# Altium footprint library ptitteam_pcb.PcbLib: 43 footprints (part 2 of 3)
Each footprint in its own frame and in the unit in brackets; x right, y up, seen from the top. Pads: shape width x height; smd on the part's side, far side on the other; paste and mask are expansions set on the pad; w line width, h text height; cw(c..) or ccw(c..) is an arc to the next point about the centre after c.
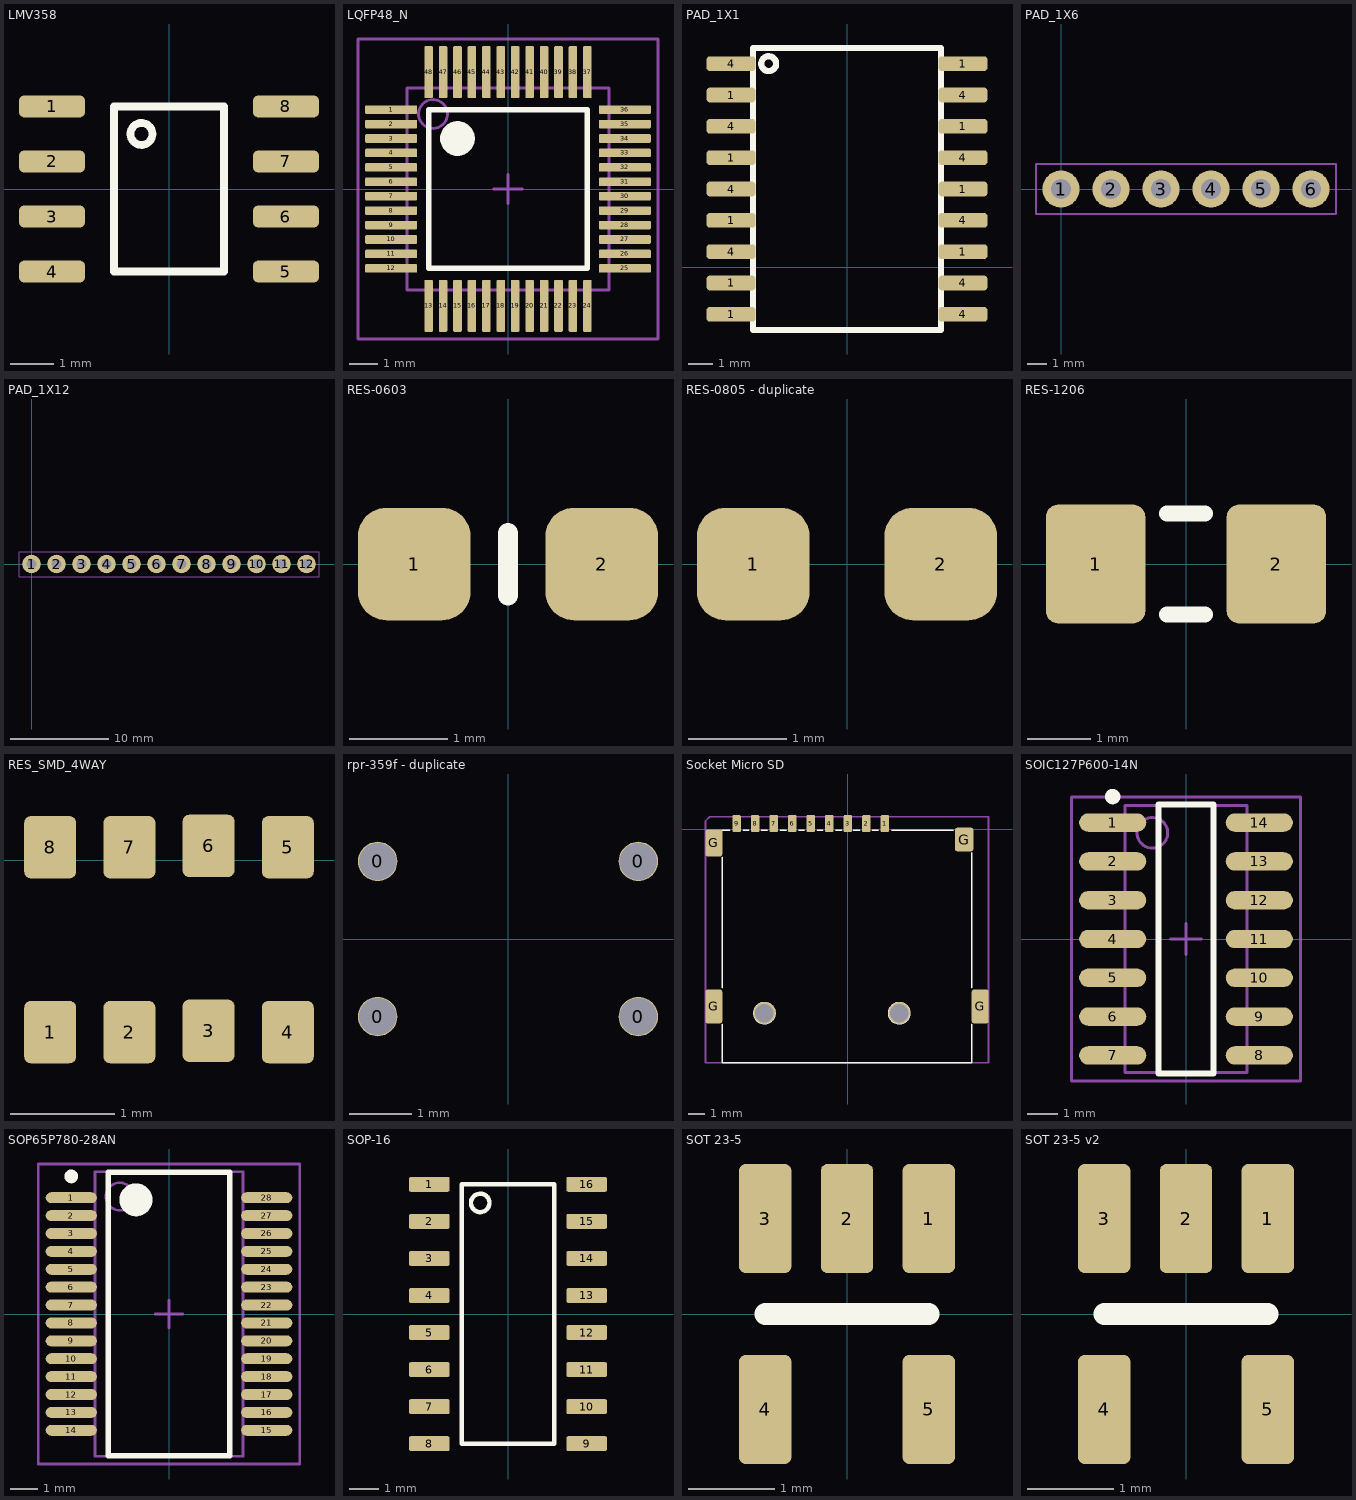
[diagram p1: the footprints below, top view; thin cyan lines are the x and y axes]

## LMV358 [mil]
pads (8):
  rrect50% 60x20 smd: 1(-106.25,75) 2(-106.25,25) 3(-106.25,-25) 4(-106.25,-75) 5(106.25,-75) 6(106.25,-25) 7(106.25,25) 8(106.25,75)
Top Overlay:
  circle w7: c-25,50 r10
  lines w7: -50,-75 -50,75 50,75 50,-75 -50,-75

## LQFP48_N [mm] "Thin QFP, 48-Leads, Body 7x7mm, Pitch 0.5mm, IPC Medium Density"
height 1.6
pads (48):
  rrect25% 1.8x0.297 smd: 1(-4.05,2.75) 2(-4.05,2.25) 3(-4.05,1.75) 4(-4.05,1.25) 5(-4.05,0.75) 6(-4.05,0.25) 7(-4.05,-0.25) 8(-4.05,-0.75) 9(-4.05,-1.25) 10(-4.05,-1.75) 11(-4.05,-2.25) 12(-4.05,-2.75) 25(4.05,-2.75) 26(4.05,-2.25) 27(4.05,-1.75) 28(4.05,-1.25) 29(4.05,-0.75) 30(4.05,-0.25) 31(4.05,0.25) 32(4.05,0.75) 33(4.05,1.25) 34(4.05,1.75) 35(4.05,2.25) 36(4.05,2.75)
  rrect25% 0.297x1.8 smd: 13(-2.75,-4.05) 14(-2.25,-4.05) 15(-1.75,-4.05) 16(-1.25,-4.05) 17(-0.75,-4.05) 18(-0.25,-4.05) 19(0.25,-4.05) 20(0.75,-4.05) 21(1.25,-4.05) 22(1.75,-4.05) 23(2.25,-4.05) 24(2.75,-4.05) 37(2.75,4.05) 38(2.25,4.05) 39(1.75,4.05) 40(1.25,4.05) 41(0.75,4.05) 42(0.25,4.05) 43(-0.25,4.05) 44(-0.75,4.05) 45(-1.25,4.05) 46(-1.75,4.05) 47(-2.25,4.05) 48(-2.75,4.05)
Top Overlay:
  circle w0.6: c-1.75,1.75 r0.3
  lines w0.2: -2.75,-2.75 2.75,-2.75 2.75,2.75 -2.75,2.75 -2.75,-2.75
Mechanical 13:
  circle w0.1: c-2.6,2.6 r0.5
  lines w0.1: -3.5,-3.5 3.5,-3.5 3.5,3.5 -3.5,3.5 -3.5,-3.5
Mechanical 15:
  lines w0.1: -0.5,0 0.5,0 ; 0,-0.5 0,0.5 ; -5.2,-5.2 5.2,-5.2 5.2,5.2 -5.2,5.2 -5.2,-5.2
3D body: height 1.6, standoff 0, extent -3.5,-3.5 3.5,3.5

## PAD_1X1 [mm] "Pad Header; Pitch 2.54 mm"
pads (18):
  rrect50% 2x0.6 smd: 1(-4.7,-1.905) 1(-4.7,-0.635) 1(-4.7,1.905) 1(-4.7,4.445) 1(-4.7,6.985) 1(4.7,0.635) 1(4.7,3.175) 1(4.7,5.715) 1(4.7,8.255) 4(-4.7,0.635) 4(-4.7,3.175) 4(-4.7,5.715) 4(-4.7,8.255) 4(4.7,-1.905) 4(4.7,-0.635) 4(4.7,1.905) 4(4.7,4.445) 4(4.7,6.985)
Top Overlay:
  circle w0.254: c-3.175,8.255 r0.3
  lines w0.254: -3.81,-2.54 -3.81,8.89 3.81,8.89 3.81,-2.54 -3.81,-2.54

## PAD_1X6 [mm] "Pad Header; Pitch 2.54 mm"
pads (6):
  round 1.886 hole 1: 1(0,0) 2(2.54,0) 3(5.08,0) 4(7.62,0) 5(10.16,0) 6(12.7,0)
Mechanical 15:
  lines w0.1: -1.27,-1.27 -1.27,1.27 13.97,1.27 13.97,-1.27 -1.27,-1.27

## PAD_1X12 [mm] "Pad Header; Pitch 2.54 mm"
pads (12):
  round 1.886 hole 1: 1(0,0) 2(2.54,0) 3(5.08,0) 4(7.62,0) 5(10.16,0) 6(12.7,0) 7(15.24,0) 8(17.78,0) 9(20.32,0) 10(22.86,0) 11(25.4,0) 12(27.94,0)
Mechanical 15:
  lines w0.1: -1.27,-1.27 29.21,-1.27 29.21,1.27 -1.27,1.27 -1.27,-1.27

## RES-0603 [mil] "Chip Resistor; Body 2 x 1.2 mm (LxW typ)"
height 27.56
pads (2):
  rrect50% 45x45 smd: 1(-37.5,0) 2(37.5,0)
Top Overlay:
  lines w8: 0,-12.5 0,12.5
3D body: height 27.56, standoff 0, extent 21.65,-23.62 39.37,23.62
3D body: height 27.56, standoff 0, extent -39.37,-23.62 -21.65,23.62
3D body: height 25.59, standoff 1.97, extent -37.4,-21.65 37.4,21.65

## RES-0805 - duplicate [mil] "Chip Resistor; Body 2 x 1.2 mm (LxW typ)"
height 27.56
pads (2):
  rrect50% 45x45 smd: 1(-37.5,0) 2(37.5,0)
3D body: height 27.56, standoff 0, extent -39.37,-23.62 -21.65,23.62
3D body: height 27.56, standoff 0, extent 21.65,-23.62 39.37,23.62
3D body: height 25.59, standoff 1.97, extent -37.4,-21.65 37.4,21.65

## RES-1206 [mm] "Chip Resistor; Body 3.1 x 1.6 mm (LxW typ)"
height 0.7
pads (2):
  rrect25% 1.569x1.886 smd: 1(-1.429,0) 2(1.429,0)
Top Overlay:
  lines w0.254: -0.3,-0.8 0.3,-0.8 ; -0.3,0.8 0.3,0.8
3D body: height 0.7, standoff 0, extent 1,-0.75 1.6,0.75
3D body: height 0.7, standoff 0, extent -1.6,-0.75 -1,0.75
3D body: height 0.65, standoff 0.05, extent -1.55,-0.7 1.55,0.7

## RES_SMD_4WAY [mm]
pads (8):
  rrect25% 0.5x0.6 smd: 1(0.508,-1.651) 2(1.27,-1.651) 3(2.032,-1.638) 4(2.794,-1.651) 5(2.794,0.127) 6(2.032,0.14) 7(1.27,0.127) 8(0.508,0.127)
3D body: height 0.5, standoff 0, extent 0.051,-1.6 3.251,0

## rpr-359f - duplicate [mm]
pads (4):
  round 0.635 hole 0.6: 0(-2.1,-1.25) 0(-2.1,1.25) 0(2.1,-1.25) 0(2.1,1.25)

## Socket Micro SD [mm]
pads (13):
  rrect25% 0.5x1 smd: 1(2.2,0.35) 2(1.1,0.35) 3(0,0.35) 4(-1.1,0.35) 5(-2.2,0.35) 6(-3.3,0.35) 7(-4.4,0.35) 8(-5.5,0.35) 9(-6.6,0.35)
  rrect25% 1x2 smd: G(-7.95,-10.5) G(7.85,-10.5)
  rrect25% 1x1.6 smd: G(-7.95,-0.796)
  rrect25% 1.1x1.4 smd: G(6.9,-0.596)
via 3.05,-10.9 diameter 1.3 hole 1.1
via -4.95,-10.9 diameter 1.3 hole 1.1
Top Overlay:
  circle w0.254: c-4.95,-10.9 r0.55
  circle w0.254: c3.05,-10.9 r0.55
  lines w0.1: -7.45,-11.557 -7.45,-13.846 7.35,-13.846 7.35,-11.557 ; -7.45,-9.398 -7.45,-1.651 ; -7.45,-0.046 -7.001,-0.046 ; -6.2,-0.046 -5.884,-0.046 ; -5.122,-0.046 -4.791,-0.046 ; -4.004,-0.046 -3.674,-0.046 ; -2.9,-0.046 -2.582,-0.046 ; -1.82,-0.046 -1.489,-0.046 ; -0.702,-0.046 -0.372,-0.046 ; 0.314,-0.046 0.7,-0.046 ; 1.457,-0.046 1.805,-0.046 ; 2.6,-0.046 6.25,-0.046 ; 7.35,-9.398 7.35,-1.397
Mechanical 15:
  lines w0.1: -8.45,-13.846 8.35,-13.846 8.35,0.754 -8.2,0.754 -8.45,0.504 -8.45,-13.846
3D body: height 2, standoff -0.47, extent -8.255,-14.626 8.052,0.584

## SOIC127P600-14N [mm] "SOIC, 14-Leads, Body 8.7x3.9mm, Pitch 1.27mm, IPC Medium Density"
height 1.75
pads (14):
  oval 2.2x0.6 smd: 1(-2.4,3.81) 2(-2.4,2.54) 3(-2.4,1.27) 4(-2.4,0) 5(-2.4,-1.27) 6(-2.4,-2.54) 7(-2.4,-3.81) 8(2.4,-3.81) 9(2.4,-2.54) 10(2.4,-1.27) 11(2.4,0) 12(2.4,1.27) 13(2.4,2.54) 14(2.4,3.81)
Top Overlay:
  circle w0.25: c-2.4,4.66 r0.125
  lines w0.2: -0.9,-4.4 -0.9,4.4 0.9,4.4 0.9,-4.4 -0.9,-4.4
Mechanical 13:
  circle w0.1: c-1.1,3.475 r0.5
  lines w0.1: -2,-4.375 -2,4.375 2,4.375 2,-4.375 -2,-4.375
Mechanical 15:
  lines w0.1: -0.5,0 0.5,0 ; 0,-0.5 0,0.5 ; -3.75,-4.65 -3.75,4.65 3.75,4.65 3.75,-4.65 -3.75,-4.65
3D body: height 1.55, standoff 0.15, extent -2,-4.375 2,4.375

## SOP65P780-28AN [mm] "SOP, 28-Leads, Body 10.2x5.3mm, Pitch 0.65mm, IPC Medium Density"
height 1.98
pads (28):
  oval 1.86x0.4 smd: 1(-3.55,4.225) 2(-3.55,3.575) 3(-3.55,2.925) 4(-3.55,2.275) 5(-3.55,1.625) 6(-3.55,0.975) 7(-3.55,0.325) 8(-3.55,-0.325) 9(-3.55,-0.975) 10(-3.55,-1.625) 11(-3.55,-2.275) 12(-3.55,-2.925) 13(-3.55,-3.575) 14(-3.55,-4.225) 15(3.55,-4.225) 16(3.55,-3.575) 17(3.55,-2.925) 18(3.55,-2.275) 19(3.55,-1.625) 20(3.55,-0.975) 21(3.55,-0.325) 22(3.55,0.325) 23(3.55,0.975) 24(3.55,1.625) 25(3.55,2.275) 26(3.55,2.925) 27(3.55,3.575) 28(3.55,4.225)
Top Overlay:
  circle w0.25: c-3.55,5 r0.125
  circle w0.6: c-1.2,4.15 r0.3
  lines w0.2: -2.2,-5.15 -2.2,5.15 2.2,5.15 2.2,-5.15 -2.2,-5.15
Mechanical 13:
  circle w0.1: c-1.79,4.27 r0.5
  lines w0.1: -2.69,-5.17 -2.69,5.17 2.69,5.17 2.69,-5.17 -2.69,-5.17
Mechanical 15:
  lines w0.1: -0.5,0 0.5,0 ; 0,-0.5 0,0.5 ; -4.75,-5.45 -4.75,5.45 4.75,5.45 4.75,-5.45 -4.75,-5.45
3D body: height 1.85, standoff 0.1, extent -2.7,-5.17 2.69,5.175

## SOP-16 [mil]
pads (16):
  rrect25% 55x20 smd: 1(-106.25,175) 2(-106.25,125) 3(-106.25,75) 4(-106.25,25) 5(-106.25,-25) 6(-106.25,-75) 7(-106.25,-125) 8(-106.25,-175) 9(106.25,-175) 10(106.25,-125) 11(106.25,-75) 12(106.25,-25) 13(106.25,25) 14(106.25,75) 15(106.25,125) 16(106.25,175)
Top Overlay:
  circle w6: c-37.5,150 r12.5
  lines w6: -62.5,-175 -62.5,175 62.5,175 62.5,-175 -62.5,-175

## SOT 23-5 [mil]
pads (5):
  rrect25% 24x50 smd: 1(37.5,43.75) 2(0,43.75) 3(-37.5,43.75) 4(-37.5,-43.75) 5(37.5,-43.75)
Top Overlay:
  lines w10: -37.5,0 37.5,0

## SOT 23-5 v2 [mil]
pads (5):
  rrect25% 24x50 smd: 1(37.5,43.75) 2(0,43.75) 3(-37.5,43.75) 4(-37.5,-43.75) 5(37.5,-43.75)
Top Overlay:
  lines w10: -37.5,0 37.5,0